# Altium footprint library RCDQLY.PCBLIB: 122 footprints (part 2 of 8)
Each footprint in its own frame and in the unit in brackets; x right, y up, seen from the top. Pads: shape width x height; smd on the part's side, far side on the other; paste and mask are expansions set on the pad; w line width, h text height; cw(c..) or ccw(c..) is an arc to the next point about the centre after c.
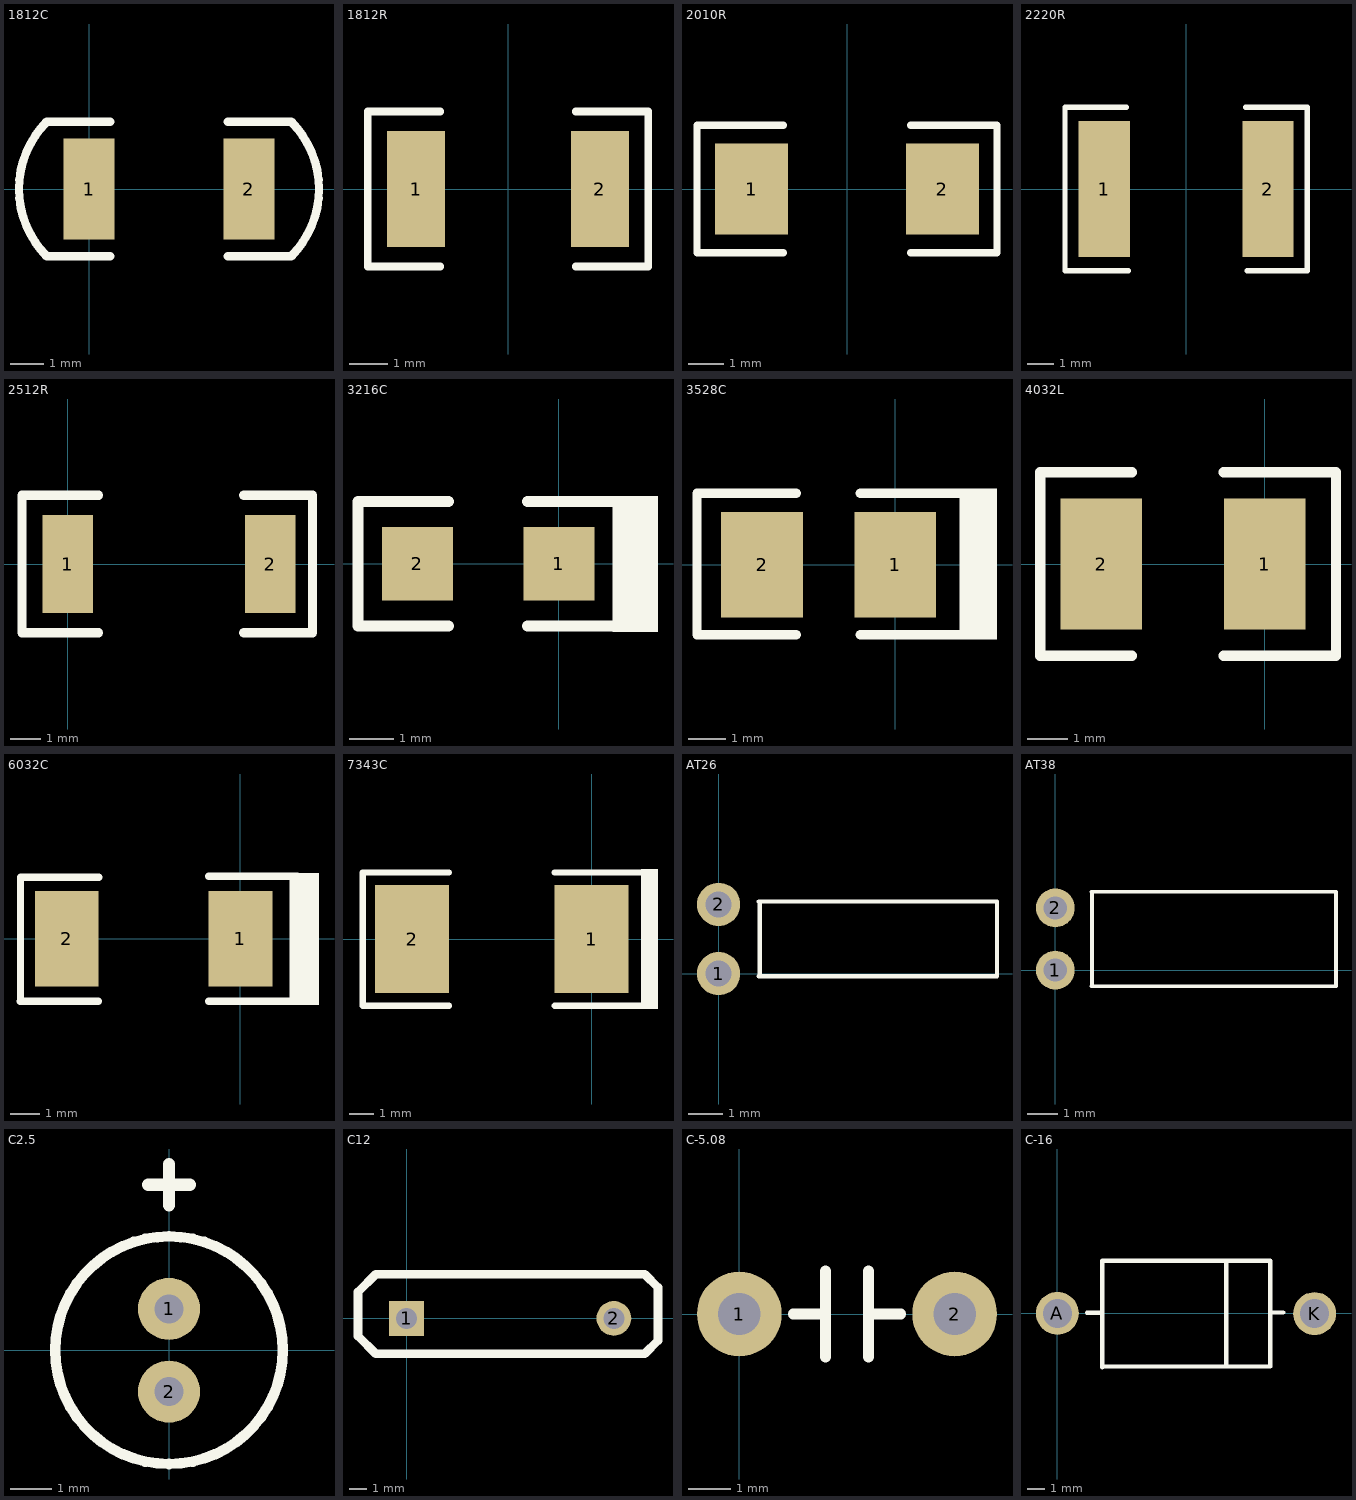
[diagram p1: the footprints below, top view; thin cyan lines are the x and y axes]

## 1812C [mil]
pads (2):
  rect 60x120 smd: 1(0,0) 2(190,0)
TopOverlay:
  lines w10: 25,-80 -50,-80 cw(c30,0) -50,80 25,80 ; 165,-80 240,-80 ccw(c160,0) 240,80 165,80

## 1812R [mil]
pads (2):
  rect 60x120 smd: 1(-95,0) 2(95,0)
TopOverlay:
  lines w8: -70,-80 -145,-80 -145,80 -70,80 ; 70,-80 145,-80 145,80 70,80

## 2010R [mil]
pads (2):
  rect 80x100 smd: 1(-105,0) 2(105,0)
TopOverlay:
  lines w8: -70,-70 -165,-70 -165,70 -70,70 ; 70,-70 165,-70 165,70 70,70

## 2220R [mil]
pads (2):
  rect 75x200 smd: 1(-120,0) 2(120,0)
TopOverlay:
  lines w8: -87.5,120 -177.5,120 -177.5,-120 -85,-120 ; 87.5,120 177.5,120 177.5,-120 90,-120

## 2512R [mm]
pads (2):
  rect 1.65x3.2 smd: 1(0,0) 2(6.608,0)
TopOverlay:
  lines w0.3: 1,-2.25 -1.5,-2.25 -1.5,2.25 1,2.25 ; 5.75,-2.25 8,-2.25 8,2.25 5.75,2.25

## 3216C [mm]
pads (2):
  rect 1.6x1.65 smd: 1(0,0) 2(-3.175,0)
TopOverlay:
  rectangle: 1.206,-1.537 2.222,1.524
  lines w0.254: -2.476,-1.397 -4.508,-1.397 -4.508,1.397 -2.476,1.397 ; -0.699,-1.397 1.206,-1.397 ; -0.699,1.397 1.206,1.397

## 3528C [mm]
pads (2):
  rect 2.2x2.85 smd: 1(0,0) 2(-3.581,0)
TopOverlay:
  rectangle: 1.727,-2.015 2.743,2.057
  lines w0.254: -2.667,-1.88 -5.334,-1.88 -5.334,1.93 -2.667,1.93 ; -0.94,-1.88 1.727,-1.88 ; -0.94,1.93 1.727,1.93

## 4032L [mm]
pads (2):
  rect 2x3.2 smd: 1(0,0) 2(-4,0)
TopOverlay:
  lines w0.254: -3.25,-2.25 -5.5,-2.25 -5.5,2.25 -3.25,2.25 ; -1,-2.25 1.75,-2.25 1.75,2.25 -1,2.25

## 6032C [mm]
pads (2):
  rect 2.2x3.3 smd: 1(0,0) 2(-6,0)
TopOverlay:
  rectangle: 1.699,-2.29 2.715,2.28
  lines w0.254: -7.605,-2.159 -4.905,-2.159 ; -7.6,-2.133 -7.6,2.133 -4.9,2.133 ; -1.095,-2.159 1.831,-2.159 ; -1.095,2.159 1.958,2.159

## 7343C [mm]
pads (2):
  rect 3x4.4 smd: 1(0,0) 2(-7.3,0)
TopOverlay:
  rectangle: 2.008,-2.835 2.7,2.845
  lines w0.254: -5.8,-2.708 -9.308,-2.708 -9.308,2.708 -5.8,2.708 ; -1.5,-2.708 2.008,-2.708 ; -1.5,2.708 2.008,2.708

## AT26 [mil]
pads (2):
  round 50 hole 30: 1(0,0) 2(0,80)
TopOverlay:
  rectangle: 44.72,-3.26 50,83.35
  lines w5: 46.49,-3.26 322.08,-3.26 322.08,83.35 46.49,83.35

## AT38 [mil]
pads (2):
  round 50 hole 30: 1(0,0) 2(0,80.31)
TopOverlay:
  rectangle: 44.72,-20.87 50,101.18
  lines w5: 46.49,-20.87 362.2,-20.87 362.2,101.18 46.49,101.18

## C2.5 [mm]
pads (2):
  round 1.5 hole 0.7: 1(0,1) 2(0,-1)
TopOverlay:
  circle w0.254: c0,0 r2.75
  lines w0.3: -0.5,4 0.5,4 ; 0,3.5 0,4.5

## C12 [mm]
pads (2):
  rect 2x2 hole 1.2: 1(0,0)
  round 2 hole 1.2: 2(11.938,0)
TopOverlay:
  lines w0.5: -2.794,-1.016 -1.778,-2.032 13.716,-2.032 14.478,-1.27 14.478,1.778 13.716,2.54 -1.778,2.54 -2.794,1.524 -2.794,-1.016

## C-5.08 [mm]
pads (2):
  round 2 hole 1: 1(0,0) 2(5.08,0)
TopOverlay:
  lines w0.254: 1.27,0 2.032,0 ; 2.032,-1.016 2.032,1.016 ; 3.048,-1.016 3.048,1.016 ; 3.048,0 3.81,0

## C-16 [mm]
pads (2):
  round 2.5 hole 1.7: A(0,0) K(15,-0.013)
TopOverlay:
  lines w0.254: 1.727,0.025 2.616,0.025 ; 2.616,-3.15 2.616,3.073 12.421,3.073 12.421,-3.099 2.667,-3.099 ; 9.855,-3.099 9.855,3.073 ; 12.421,0.051 13.183,0.051